# EAGLE library part ADXL311 (library ic)
ADXL311: Dual-axis accelerometer (Analog Devices) ±2g, 3kHz, voltage output
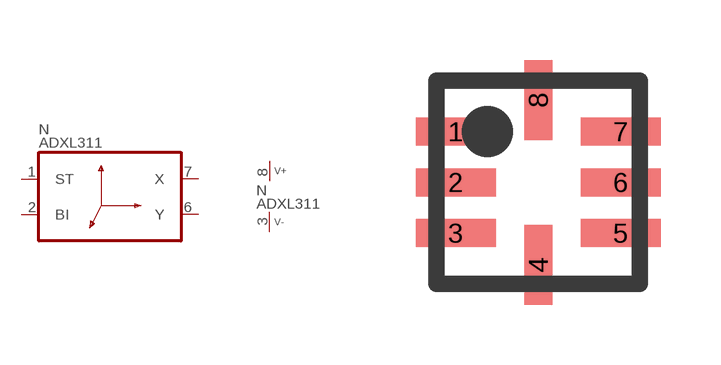
[diagram p117: symbol with the pads of LGA8; footprint LGA8]

Designator prefix N; gates A=ADXL311 P=V+-

## ADXL311  [LGA8]
1  A:ST  in
2  A:BI  in
3  P:V-  pwr
6  A:Y  out
7  A:X  out
8  P:V+  pwr

## Footprint LGA8 (pad centres in mm)
smd 2 x 0.7: 1 -2.064,1.27; 2 -2.064,0; 3 -2.064,-1.27; 5 2.064,-1.27; 6 2.064,0; 7 2.064,1.27
smd 0.7 x 2: 4 0,-2.064; 8 0,2.064